# Altium schematic symbol library LDQ-M3604RI.SchLib: 1 symbol
Pins are listed as number, name and electrical type; pins without a type are passive.

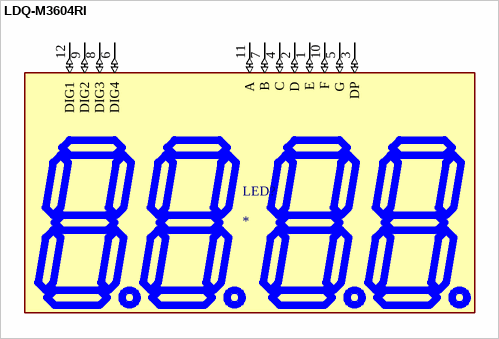
[diagram p0: symbol LDQ-M3604RI]

## LDQ-M3604RI
designator LED?
Display, Seven Segment, 9.2MM, Red; MP: LDQ-M3604RI; MF: Lumex; Value: *; Check_prices: https://www.snapeda.com/parts/LDQ-M3604RI/Lumex/view-part/?ref=eda; Package: None; Price: None; Availability: In Stock; SnapEDA_Link: https://www.snapeda.com/parts/LDQ-M3604RI/Lumex/view-part/?ref=snap
footprint LDQ-M3604RI
pins: 1 E (io), 2 D (io), 3 DP (io), 4 C (io), 5 G (io), 6 DIG4 (io), 7 B (io), 8 DIG3 (io), 9 DIG2 (io), 10 F (io), 11 A (io), 12 DIG1 (io)